# Altium schematic symbol library ic.SchLib: 1 symbol
Pins are listed as number, name and electrical type; pins without a type are passive.

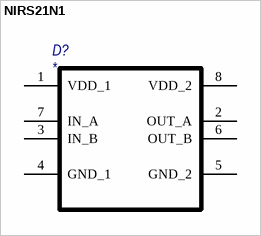
[diagram p0: symbol NIRS21N1]

## NIRS21N1
designator D?
Digital isolator dual-channel
pins: 1 VDD_1, 2 OUT_A, 3 IN_B, 4 GND_1, 5 GND_2, 6 OUT_B, 7 IN_A, 8 VDD_2